# EAGLE library part NCP3170 (library NPC3170)
Synchronous PWM Switching Converter
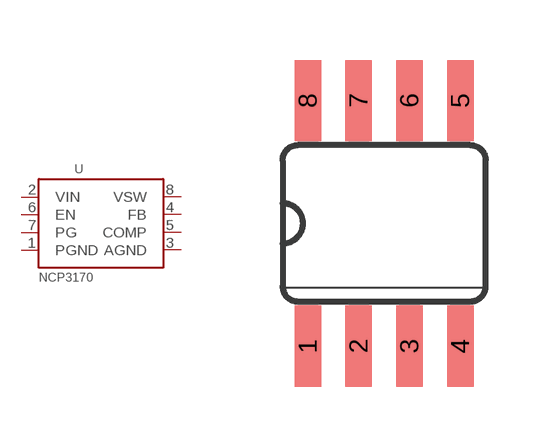
[diagram p0: symbol with the pads of SO08; footprint SO08]

Designator prefix U

## NCP3170ADR2G (OC_FARNELL: 1924872)  [SO08]
1  PGND  pwr
2  VIN  pwr
3  AGND  pwr
4  FB  in
5  COMP  in
6  EN  in
7  PG  out
8  VSW  out

## Footprint SO08 (pad centres in mm)
Small Outline Package SOIC 150 mil
smd 0.66 x 2.032: 1 -1.905,-3.073; 2 -0.635,-3.073; 3 0.635,-3.073; 4 1.905,-3.073; 5 1.905,3.073; 6 0.635,3.073; 7 -0.635,3.073; 8 -1.905,3.073